# Altium schematic symbol library QuartzThrough.SchLib: 2 symbols
Pins are listed as number, name and electrical type; pins without a type are passive.

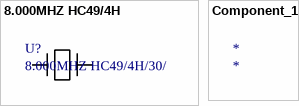
[diagram p0: symbols 8.000MHZ HC49/4H to Component_1]

## 8.000MHZ HC49/4H
designator U?, comment 8.000MHZ HC49/4H/30/
No Description Available; Vendor: Euroquartz; Built_By: EMA_UL_Team; SourceLibrary: Euroquartz_2010-01-01; Manufacturer_Part_Number: 8.000MHZ HC49/4H/30/; Copyright: Copyright (C) 2018 Accelerated Designs. All rights reserved; RefDes: RefDes; Type: DEV; Link: ------------
footprint HC49-4H
pins: 1, 2

## Component_1
designator *